# Altium footprint library INDC1006X18L23N.PcbLib: 1 footprints
Each footprint in its own frame and in the unit in brackets; x right, y up, seen from the top. Pads: shape width x height; smd on the part's side, far side on the other; paste and mask are expansions set on the pad; w line width, h text height; cw(c..) or ccw(c..) is an arc to the next point about the centre after c.
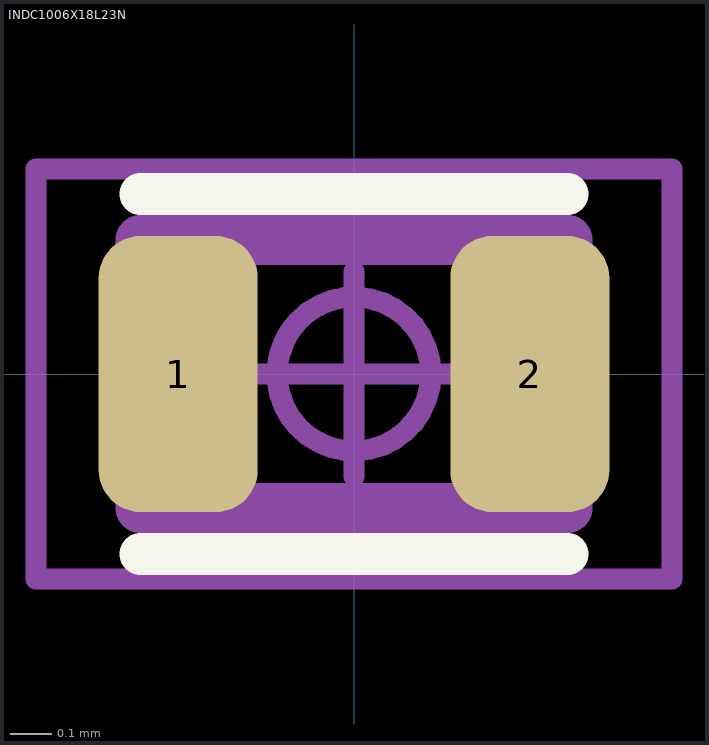
[diagram p0: the footprint, top view; thin cyan lines are the x and y axes]

## INDC1006X18L23N [mm] "Inductor, Chip; 1.02 mm L X 0.64 mm W X 0.18 mm H body"
height 0.18
pads (2):
  rrect53% 0.38x0.66 smd: 1(-0.42,0) 2(0.42,0)
Top Overlay:
  lines w0.1: -0.51,-0.43 0.51,-0.43 ; -0.51,0.43 0.51,0.43
Fab - Detail1, HDI1:
  lines w0.12: -0.51,-0.32 0.51,-0.32 0.51,0.32 -0.51,0.32 -0.51,-0.32
Courtyards/Models - Top:
  circle w0.05: c0,0 r0.184
  lines w0.05: -0.245,0 0.245,0 ; 0,-0.245 0,0.245 ; -0.76,-0.49 0.76,-0.49 0.76,0.49 -0.76,0.49 -0.76,-0.49
3D body "Coilcraft-0402CS.step": height 0.65, standoff -0.01, extent -0.593,-0.318 0.593,0.318